# Altium schematic symbol library TPS4H160AQPWPRQ1.SchLib: 1 symbol
Pins are listed as number, name and electrical type; pins without a type are passive.

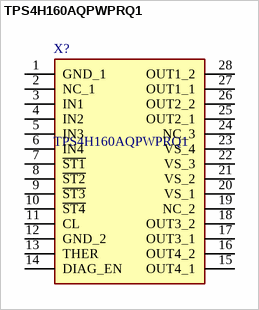
[diagram p0: symbol TPS4H160AQPWPRQ1]

## TPS4H160AQPWPRQ1
designator X?
40-V/160-m Quad Channels Smart High-Side Switch; Manufacturer_Name: Texas Instruments; Geometry.Height: 1.2mm; Manufacturer_Part_Number: TPS4H160AQPWPRQ1; Mouser Part Number: 595-TPS4H160AQPWPRQ1; Mouser Price/Stock: https://www.mouser.co.uk/ProductDetail/Texas-Instruments/TPS4H160AQPWPRQ1?qs=l4JqiU1WKg3jmTHCrG9xTw%3D%3D; Arrow Part Number: TPS4H160AQPWPRQ1; Arrow Price/Stock: https://www.arrow.com/en/products/tps4h160aqpwprq1/texas-instruments?region=nac; Datasheet Link: http://www.ti.com/lit/gpn/tps4h160-q1
footprint SOP65P640X120-28N
pins: 1 GND_1, 2 NC_1, 3 IN1, 4 IN2, 5 IN3, 6 IN4, 7 ~{ST1}, 8 ~{ST2}, 9 ~{ST3}, 10 ~{ST4}, 11 CL, 12 GND_2, 13 THER, 14 DIAG_EN, 15 OUT4_1, 16 OUT4_2, 17 OUT3_1, 18 OUT3_2, 19 NC_2, 20 VS_1 (power), 21 VS_2 (power), 22 VS_3 (power), 23 VS_4 (power), 24 NC_3, 25 OUT2_1, 26 OUT2_2, 27 OUT1_1, 28 OUT1_2